# Altium footprint library PCB - LEADLESS - SON - TI VSON-14 DSJ.PcbLib: 1 footprints
Each footprint in its own frame and in the unit in brackets; x right, y up, seen from the top. Pads: shape width x height; smd on the part's side, far side on the other; paste and mask are expansions set on the pad; w line width, h text height; cw(c..) or ccw(c..) is an arc to the next point about the centre after c.
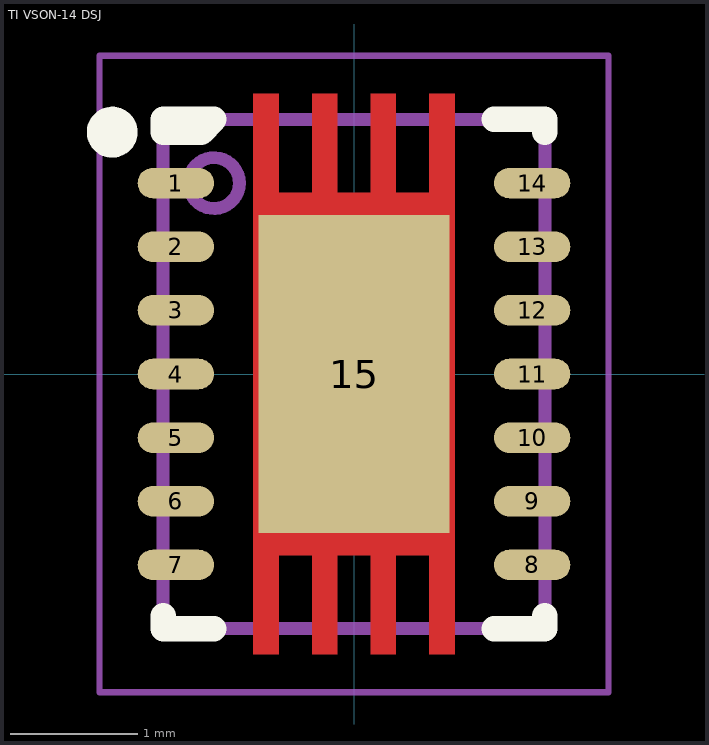
[diagram p0: the footprint, top view; thin cyan lines are the x and y axes]

## TI VSON-14 DSJ [mm] "VSON-14 Package, 0.5mm Pitch, 4.00x3.00 mm Body"
height 1
pads (15):
  oval 0.6x0.24 smd: 1(-1.4,1.5) 2(-1.4,1) 3(-1.4,0.5) 4(-1.4,0) 5(-1.4,-0.5) 6(-1.4,-1) 7(-1.4,-1.5) 8(1.4,-1.5) 9(1.4,-1) 10(1.4,-0.5) 11(1.4,0) 12(1.4,0.5) 13(1.4,1) 14(1.4,1.5)
  rect 1.5x2.5 smd paste+0 mask+0: 15(0,0)
Top Layer:
  region: -0.59,2.2 -0.59,1.425 -0.33,1.425 -0.33,2.2 -0.13,2.2 -0.13,1.425 0.13,1.425 0.13,2.2 0.33,2.2 0.33,1.425 0.59,1.425 0.59,2.2 0.79,2.2 0.79,-2.2 0.59,-2.2 0.59,-1.425 0.33,-1.425 0.33,-2.2 0.13,-2.2 0.13,-1.425 -0.13,-1.425 -0.13,-2.2 -0.33,-2.2 -0.33,-1.425 -0.59,-1.425 -0.59,-2.2 -0.79,-2.2 -0.79,2.2
Top Overlay:
  circle w0.2: c-1.9,1.9 r0.1
  lines w0.2: -1.5,-1.9 -1.5,-2 ; -1.1,-2 -1.5,-2 ; 1.1,-2 1.5,-2 ; 1.1,2 1.5,2 ; 1.5,-1.9 1.5,-2 ; 1.5,1.9 1.5,2 ; -1.5,-2 -1.5,-2 ; -1.5,1.9 -1.5,2 ; -1.5,1.9 -1.5,1.9 ; -1.5,1.9 -1.2,1.9 -1.1,2 -1.5,2 ; -1.5,2 -1.5,2 ; 1.5,-2 1.5,-2 ; 1.5,2 1.5,2
Mechanical 13:
  circle w0.1: c-1.1,1.5 r0.2
  lines w0.1: -1.5,-2 1.5,-2 1.5,2 -1.5,2 -1.5,-2
Mechanical 15 (Mech15):
  lines w0.05: -2,-2.5 2,-2.5 2,2.5 -2,2.5 -2,-2.5
  lines w0.1: -0.5,0 0,0 ; 0,-0.5 0,0 ; 0,0.5 0,0 ; 0.5,0 0,0
3D body "TI - VSON-14 v4.step": height 1, standoff 0, extent -1.5,-2 1.5,2